# Altium schematic symbol library DIN连接器.SchLib: 2 symbols
Pins are listed as number, name and electrical type; pins without a type are passive.

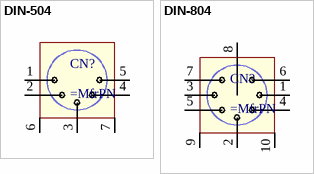
[diagram p0: symbols DIN-504 to DIN-804]

## DIN-504
designator CN?
pins: 1, 2, 3, 4, 5, 6, 7

## DIN-804
designator CN?
pins: 1, 2, 3, 4, 5, 6, 7, 8, 9, 10